# EAGLE library part ATTINY13A-PU (library IC-Microcontrollers)
8-bit Microcontroller with 1K Bytes In-System Programmable Flash
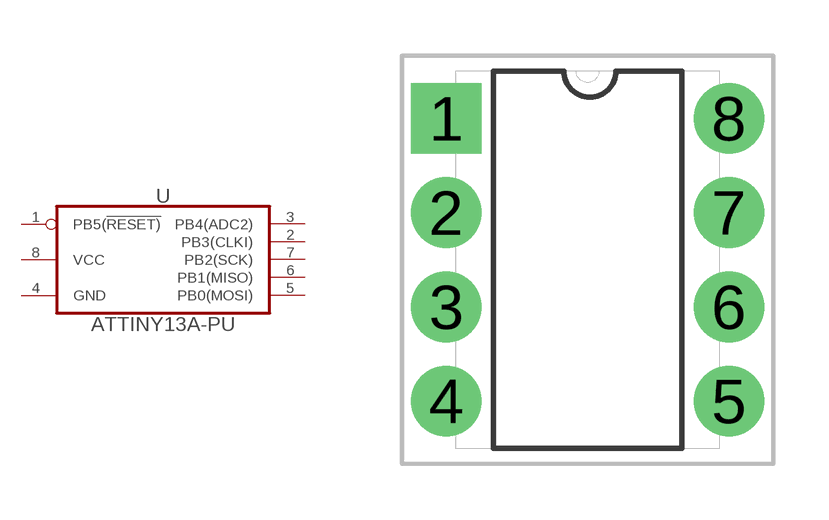
[diagram p3: symbol with the pads of DIP254P762X533-8; footprint DIP254P762X533-8]

Designator prefix U

## ATTINY13A-PU (DATASHEET: value; DIGIKEY-PART-NUMBER: value; LINK: value; MANUFACTURER: value; MPN: value; OC_FARNELL: 1704566; OC_NEWARK: 68T3499; PACKAGE: PDIP-8; SUPPLIER: Atmel; TECHNOLOGY: value; UNIT-PRICE: value)  [DIP254P762X533-8]
1  PB5(!RESET)
2  PB3(CLKI)
3  PB4(ADC2)
4  GND  pas
5  PB0(MOSI)
6  PB1(MISO)
7  PB2(SCK)
8  VCC  pwr

## Footprint DIP254P762X533-8 (pad centres in mm)
drill 1.27 square: 1 -3.81,3.81
drill 1.27: 2 -3.81,1.27; 3 -3.81,-1.27; 4 -3.81,-3.81; 5 3.81,-3.81; 6 3.81,-1.27; 7 3.81,1.27; 8 3.81,3.81